# Altium schematic symbol library Atmega8_Stamp.SchLib: 1 symbol
Pins are listed as number, name and electrical type; pins without a type are passive.

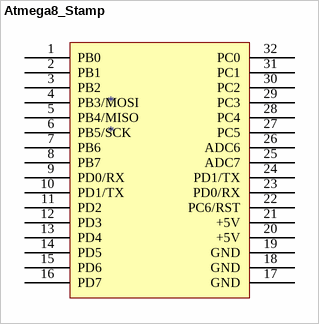
[diagram p0: symbol Atmega8_Stamp]

## Atmega8_Stamp
designator *
pins: 1 PB0, 2 PB1, 3 PB2, 4 PB3/MOSI, 5 PB4/MISO, 6 PB5/SCK, 7 PB6, 8 PB7, 9 PD0/RX, 10 PD1/TX, 11 PD2, 12 PD3, 13 PD4, 14 PD5, 15 PD6, 16 PD7, 17 GND, 18 GND, 19 GND, 20 +5V, 21 +5V, 22 PC6/RST, 23 PD0/RX, 24 PD1/TX, 25 ADC7, 26 ADC6, 27 PC5, 28 PC4, 29 PC3, 30 PC2, 31 PC1, 32 PC0